# Altium footprint library L_1206_3216.pcblib: 1 footprints
Each footprint in its own frame and in the unit in brackets; x right, y up, seen from the top. Pads: shape width x height; smd on the part's side, far side on the other; paste and mask are expansions set on the pad; w line width, h text height; cw(c..) or ccw(c..) is an arc to the next point about the centre after c.
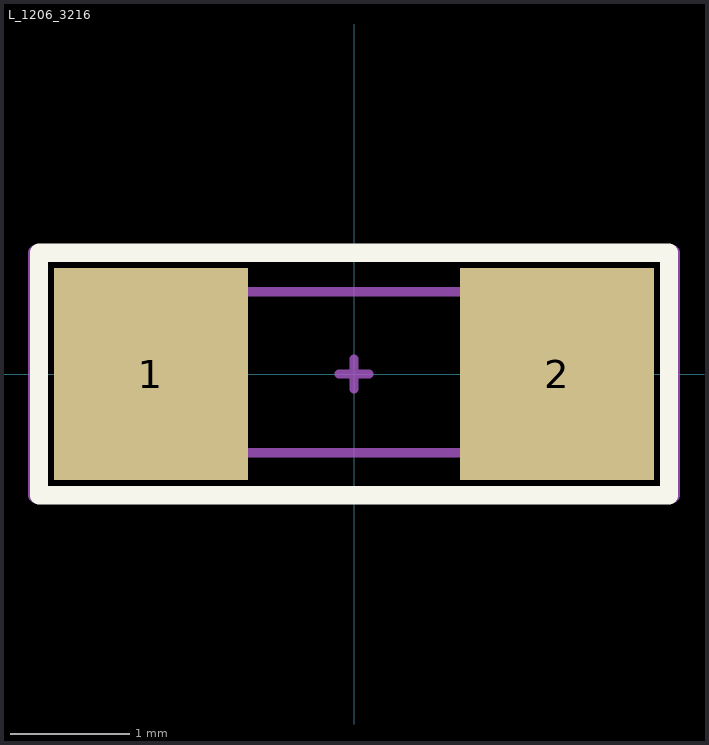
[diagram p0: the footprint, top view; thin cyan lines are the x and y axes]

## L_1206_3216 [mil]
pads (2):
  rect 64x70 smd: 1(-67,0) 2(67,0)
Top Overlay:
  lines w6: -104,-40 104,-40 104,40 -35,40 -104,40 -104,-40
Mechanical 13:
  lines w3: -62.99,-26 62.99,-26 62.99,27.15 -62.99,27.15 -62.99,-26
Mechanical 15:
  lines w3: -5,0 5,0 ; 0,-5 0,5
  lines w5: -105,-40 105,-40 105,40 -105,40 -105,-40
Mechanical 17:
  text "'.Designator'" at -65,-20 h10
Mechanical 19:
  text "'.Comment'" at -65,-20 h10
3D body "User Library-Chip Inductor 1206.step": height 99.21, standoff 0.79, extent -62.99,-26 62.99,27.15